# EAGLE library part ROBOMD2-10P (library robobus)
ROBOMD2 Connector for exhernal dual channel brushed motor driver. 10-pin version.
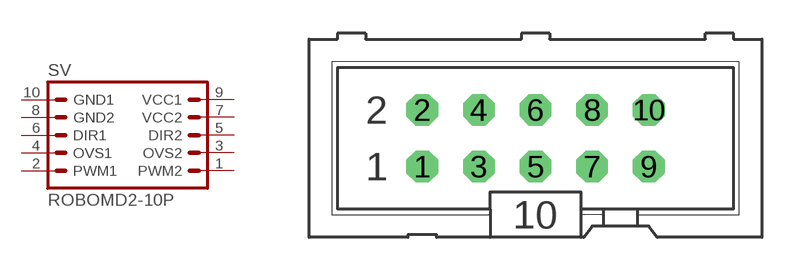
[diagram p1: symbol with the pads of ML10; footprint ML10]

Designator prefix SV

## ROBOMD2-10P (OC_FARNELL: unknown; OC_NEWARK: unknown)  [ML10]
1  PWM2  pas
2  PWM1  pas
3  OVS2  pas
4  OVS1  pas
5  DIR2  pas
6  DIR1  pas
7  VCC2  pas
8  GND2  pas
9  VCC1  pas
10  GND1  pas

## Footprint ML10 (pad centres in mm)
HARTING
drill 0.914 octagon: 1 -5.08,-1.27; 2 -5.08,1.27; 3 -2.54,-1.27; 4 -2.54,1.27; 5 0,-1.27; 6 0,1.27; 7 2.54,-1.27; 8 2.54,1.27; 9 5.08,-1.27; 10 5.08,1.27